# Altium schematic symbol library ECS-TXO-3225-122P8-TR.SchLib: 2 symbols
Pins are listed as number, name and electrical type; pins without a type are passive.

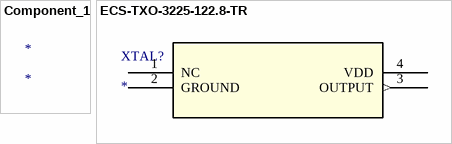
[diagram p0: symbols Component_1 to ECS-TXO-3225-122.8-TR]

## Component_1
designator *

## ECS-TXO-3225-122.8-TR
designator XTAL?
No Description Available; Mfr_Name: ECS International; RefDes: RefDes; Type: Type
footprint ECS-TXO-3225_ECS
pins: 1 NC, 2 GROUND (power), 3 OUTPUT (out), 4 VDD (power)